# Altium schematic symbol library SCH - BJT - Single, Pre-Biased - ON SEMI NPN SC-75 DTC.SchLib: 1 symbol
Pins are listed as number, name and electrical type; pins without a type are passive.

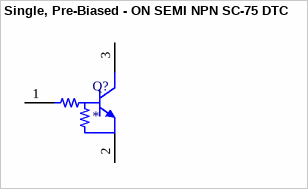
[diagram p0: symbol Single, Pre-Biased - ON SEMI NPN SC-75 DTC]

## Single, Pre-Biased - ON SEMI NPN SC-75 DTC
designator Q?
pins: 1 B, 2 E, 3 C